# Altium schematic symbol library WE-CBF HF.SchLib: 10 symbols
Pins are listed as number, name and electrical type; pins without a type are passive.

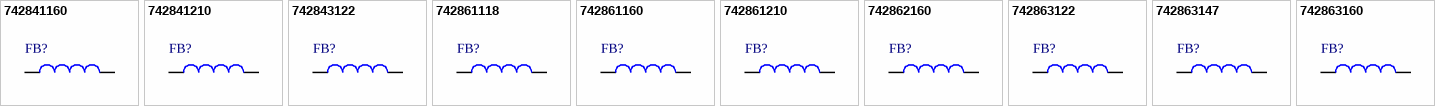
[diagram p0: symbols 742841160 to 742863160]

## 742841160
designator FB?, comment 600Ω  (value not drawn)
WE-CBF HF SMT High Frequency EMI Suppression Ferrite Bead, size 0402, 600Ω, 0.25A; Manufacturer Part Number: 742841160; Manufacturer: Wurth Elektronik; Case/Size Code: 0402; DC Resistance: 0.82Ω; Impedance @1GHz: 1100Ω; Impedance Max: 1800Ω; Impedance Max Test Condition: 650MHz; Type: Wide Band; Category: Ferrites for PCB Assembly; Match Code: WE-CBF HF; ComponentLink1Description: Website Link; ComponentLink1URL: https://www.we-online.com/redexpert/article/742841160?ad; ComponentLink2Description: Datasheet Link; ComponentLink2URL: https://www.we-online.com/redexpert/spec/742841160?ad; Mount: Surface Mount; Min Operating Temperature: -55°C; Max Operating Temperature: 125°C; Packaging: Tape and Reel; Length: 1mm; Width: 0.5mm; Height: 0.5mm; Impedance @100MHz: 600Ω; Rated Current: 0.25A
footprint WE-CBF HF_0402_HS_WB
simulation model 0402_742841160_600ohm
pins: 1, 2

## 742841210
designator FB?, comment 1000Ω  (value not drawn)
WE-CBF HF SMT High Frequency EMI Suppression Ferrite Bead, size 0402, 1000Ω, 0.25A; Manufacturer Part Number: 742841210; Manufacturer: Wurth Elektronik; Case/Size Code: 0402; DC Resistance: 0.9Ω; Impedance @1GHz: 900Ω; Impedance Max: 1750Ω; Impedance Max Test Condition: 500MHz; Type: Wide Band; Category: Ferrites for PCB Assembly; Match Code: WE-CBF HF; ComponentLink1Description: Website Link; ComponentLink1URL: https://www.we-online.com/redexpert/article/742841210?ad; ComponentLink2Description: Datasheet Link; ComponentLink2URL: https://www.we-online.com/redexpert/spec/742841210?ad; Mount: Surface Mount; Min Operating Temperature: -55°C; Max Operating Temperature: 125°C; Packaging: Tape and Reel; Length: 1mm; Width: 0.5mm; Height: 0.5mm; Impedance @100MHz: 1000Ω; Rated Current: 0.25A
footprint WE-CBF HF_0402_HS_WB
simulation model 0402_742841210_1000ohm
pins: 1, 2

## 742843122
designator FB?, comment 220Ω  (value not drawn)
WE-CBF HF SMT High Frequency EMI Suppression Ferrite Bead, size 0402, 220Ω, 0.8A; Manufacturer Part Number: 742843122; Manufacturer: Wurth Elektronik; Case/Size Code: 0402; DC Resistance: 0.25Ω; Impedance @1GHz: 300Ω; Impedance Max: 400Ω; Impedance Max Test Condition: 750MHz; Type: High Current; Category: Ferrites for PCB Assembly; Match Code: WE-CBF HF; ComponentLink1Description: Website Link; ComponentLink1URL: https://www.we-online.com/redexpert/article/742843122?ad; ComponentLink2Description: Datasheet Link; ComponentLink2URL: https://www.we-online.com/redexpert/spec/742843122?ad; Mount: Surface Mount; Min Operating Temperature: -55°C; Max Operating Temperature: 125°C; Packaging: Tape and Reel; Length: 1mm; Width: 0.5mm; Height: 0.5mm; Impedance @100MHz: 220Ω; Rated Current: 0.8A
footprint WE-CBF HF_0402_HC
simulation model 0402_742843122_220ohm
pins: 1, 2

## 742861118
designator FB?, comment 180Ω  (value not drawn)
WE-CBF HF SMT High Frequency EMI Suppression Ferrite Bead, size 0603, 180Ω, 0.7A; Manufacturer Part Number: 742861118; Manufacturer: Wurth Elektronik; Case/Size Code: 0603; DC Resistance: 0.25Ω; Impedance Max: 300Ω; Impedance Max Test Condition: 450MHz; Type: Wide Band; Category: Ferrites for PCB Assembly; Match Code: WE-CBF HF; ComponentLink1Description: Website Link; ComponentLink1URL: https://www.we-online.com/redexpert/article/742861118?ad; ComponentLink2Description: Datasheet Link; ComponentLink2URL: https://www.we-online.com/redexpert/spec/742861118?ad; Mount: Surface Mount; Min Operating Temperature: -55°C; Max Operating Temperature: 125°C; Packaging: Tape and Reel; Length: 1.6mm; Width: 0.8mm; Height: 0.8mm; Impedance @100MHz: 180Ω; Impedance @1GHz: 180Ω; Rated Current: 0.7A
footprint WE-CBF HF_0603_HS_WB
simulation model 0603_742861118_180ohm
pins: 1, 2

## 742861160
designator FB?, comment 600Ω  (value not drawn)
WE-CBF HF SMT High Frequency EMI Suppression Ferrite Bead, size 0603, 600Ω, 0.5A; Manufacturer Part Number: 742861160; Manufacturer: Wurth Elektronik; Case/Size Code: 0603; DC Resistance: 0.27Ω; Impedance @1GHz: 450Ω; Impedance Max: 900Ω; Impedance Max Test Condition: 350MHz; Type: Wide Band; Category: Ferrites for PCB Assembly; Match Code: WE-CBF HF; ComponentLink1Description: Website Link; ComponentLink1URL: https://www.we-online.com/redexpert/article/742861160?ad; ComponentLink2Description: Datasheet Link; ComponentLink2URL: https://www.we-online.com/redexpert/spec/742861160?ad; Mount: Surface Mount; Min Operating Temperature: -55°C; Max Operating Temperature: 125°C; Packaging: Tape and Reel; Length: 1.6mm; Width: 0.8mm; Height: 0.8mm; Impedance @100MHz: 600Ω; Rated Current: 0.5A
footprint WE-CBF HF_0603_HS_WB
simulation model 0603_742861160_600ohm
pins: 1, 2

## 742861210
designator FB?, comment 1000Ω  (value not drawn)
WE-CBF HF SMT High Frequency EMI Suppression Ferrite Bead, size 0603, 1000Ω, 0.3A; Manufacturer Part Number: 742861210; Manufacturer: Wurth Elektronik; Case/Size Code: 0603; DC Resistance: 1.2Ω; Impedance @1GHz: 1100Ω; Impedance Max: 2200Ω; Impedance Max Test Condition: 450MHz; Type: Wide Band; Category: Ferrites for PCB Assembly; Match Code: WE-CBF HF; ComponentLink1Description: Website Link; ComponentLink1URL: https://www.we-online.com/redexpert/article/742861210?ad; ComponentLink2Description: Datasheet Link; ComponentLink2URL: https://www.we-online.com/redexpert/spec/742861210?ad; Mount: Surface Mount; Min Operating Temperature: -55°C; Max Operating Temperature: 125°C; Packaging: Tape and Reel; Length: 1.6mm; Width: 0.8mm; Height: 0.8mm; Impedance @100MHz: 1000Ω; Rated Current: 0.3A
footprint WE-CBF HF_0603_HS_WB
simulation model 0603_742861210_1000ohm
pins: 1, 2

## 742862160
designator FB?, comment 600Ω  (value not drawn)
WE-CBF HF SMT High Frequency EMI Suppression Ferrite Bead, size 0603, 600Ω, 0.35A; Manufacturer Part Number: 742862160; Manufacturer: Wurth Elektronik; Case/Size Code: 0603; DC Resistance: 0.8Ω; Impedance @1GHz: 850Ω; Impedance Max: 1500Ω; Impedance Max Test Condition: 700MHz; Type: High Speed; Category: Ferrites for PCB Assembly; Match Code: WE-CBF HF; ComponentLink1Description: Website Link; ComponentLink1URL: https://www.we-online.com/redexpert/article/742862160?ad; ComponentLink2Description: Datasheet Link; ComponentLink2URL: https://www.we-online.com/redexpert/spec/742862160?ad; Mount: Surface Mount; Min Operating Temperature: -55°C; Max Operating Temperature: 125°C; Packaging: Tape and Reel; Length: 1.6mm; Width: 0.8mm; Height: 0.8mm; Impedance @100MHz: 600Ω; Rated Current: 0.35A
footprint WE-CBF HF_0603_HS_WB
simulation model 0603_742862160_600ohm
pins: 1, 2

## 742863122
designator FB?, comment 220Ω  (value not drawn)
WE-CBF HF SMT High Frequency EMI Suppression Ferrite Bead, size 0603, 220Ω, 1.3A; Manufacturer Part Number: 742863122; Manufacturer: Wurth Elektronik; Case/Size Code: 0603; DC Resistance: 0.13Ω; Impedance @1GHz: 250Ω; Impedance Max: 350Ω; Impedance Max Test Condition: 640MHz; Type: High Current; Category: Ferrites for PCB Assembly; Match Code: WE-CBF HF; ComponentLink1Description: Website Link; ComponentLink1URL: https://www.we-online.com/redexpert/article/742863122?ad; ComponentLink2Description: Datasheet Link; ComponentLink2URL: https://www.we-online.com/redexpert/spec/742863122?ad; Mount: Surface Mount; Min Operating Temperature: -55°C; Max Operating Temperature: 125°C; Packaging: Tape and Reel; Length: 1.6mm; Width: 0.8mm; Height: 0.8mm; Impedance @100MHz: 220Ω; Rated Current: 1.3A
footprint WE-CBF HF_0603_HC
simulation model 0603_742863122_220ohm
pins: 1, 2

## 742863147
designator FB?, comment 470Ω  (value not drawn)
WE-CBF HF SMT High Frequency EMI Suppression Ferrite Bead, size 0603, 470Ω, 0.75A; Manufacturer Part Number: 742863147; Manufacturer: Wurth Elektronik; Case/Size Code: 0603; DC Resistance: 0.19Ω; Impedance @1GHz: 600Ω; Impedance Max: 780Ω; Impedance Max Test Condition: 600MHz; Type: High Current; Category: Ferrites for PCB Assembly; Match Code: WE-CBF HF; ComponentLink1Description: Website Link; ComponentLink1URL: https://www.we-online.com/redexpert/article/742863147?ad; ComponentLink2Description: Datasheet Link; ComponentLink2URL: https://www.we-online.com/redexpert/spec/742863147?ad; Mount: Surface Mount; Min Operating Temperature: -55°C; Max Operating Temperature: 125°C; Packaging: Tape and Reel; Length: 1.6mm; Width: 0.8mm; Height: 0.8mm; Impedance @100MHz: 470Ω; Rated Current: 0.75A
footprint WE-CBF HF_0603_HC
simulation model 0603_742863147_470ohm
pins: 1, 2

## 742863160
designator FB?, comment 600Ω  (value not drawn)
WE-CBF HF SMT High Frequency EMI Suppression Ferrite Bead, size 0603, 600Ω, 0.5A; Manufacturer Part Number: 742863160; Manufacturer: Wurth Elektronik; Case/Size Code: 0603; DC Resistance: 0.22Ω; Impedance @1GHz: 800Ω; Impedance Max: 950Ω; Impedance Max Test Condition: 600MHz; Type: High Current; Category: Ferrites for PCB Assembly; Match Code: WE-CBF HF; ComponentLink1Description: Website Link; ComponentLink1URL: https://www.we-online.com/redexpert/article/742863160?ad; ComponentLink2Description: Datasheet Link; ComponentLink2URL: https://www.we-online.com/redexpert/spec/742863160?ad; Mount: Surface Mount; Min Operating Temperature: -55°C; Max Operating Temperature: 125°C; Packaging: Tape and Reel; Length: 1.6mm; Width: 0.8mm; Height: 0.8mm; Impedance @100MHz: 600Ω; Rated Current: 0.5A
footprint WE-CBF HF_0603_HC
simulation model 0603_742863160_600ohm
pins: 1, 2